# EAGLE library part IV-27M_RIGHT (library Russian-VFD-tubes)
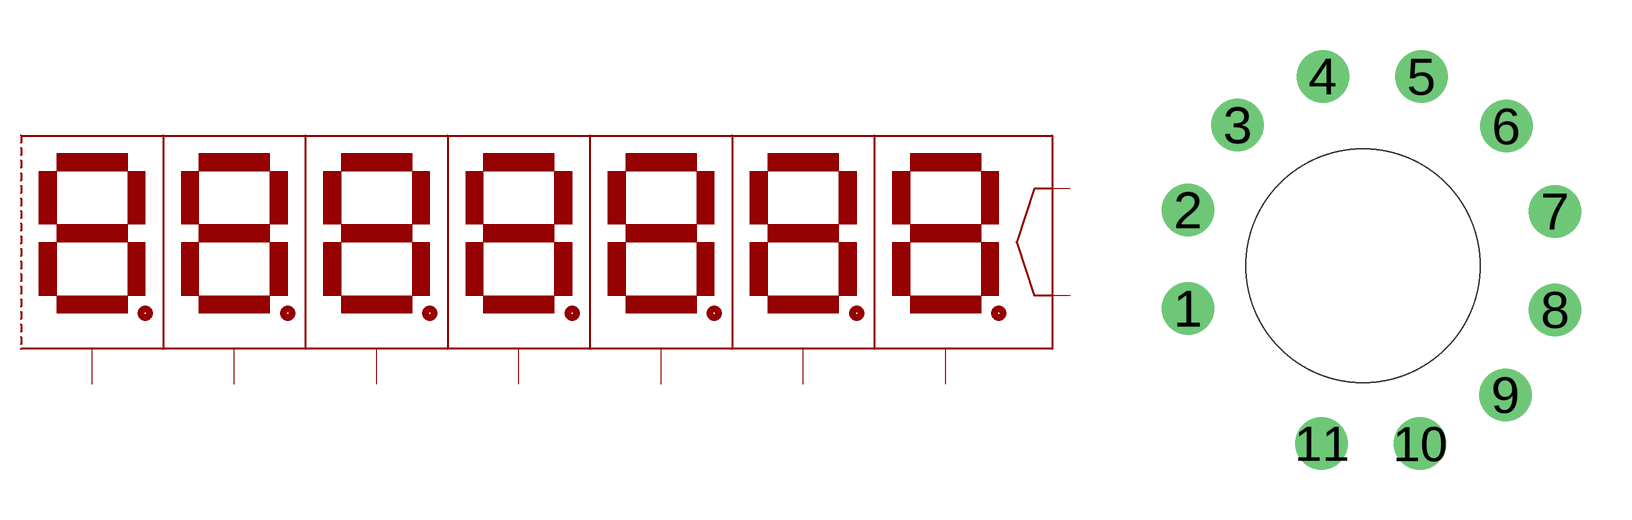
[diagram p8: symbol with the pads of IV-27M_RIGHT; footprint IV-27M_RIGHT]

Designator prefix -

## IV-27M_RIGHT  [IV-27M_RIGHT]
3  GRID_1
4  CATHODE/FILAMENT
5  CHATODE/FILAMENT/SPUTTERED_SHIELD
6  GRID_2
7  GRID_6
8  GRID_7
9  GRID_5
10  GRID_3
11  GRID_4

## Footprint IV-27M_RIGHT (pad centres in mm)
IV-27M_right
drill 1.05: 1 -5.249,-1.281; 2 -5.239,1.667; 3 -3.756,4.214; 4 -1.198,5.679; 5 1.749,5.669; 6 4.296,4.186; 7 5.761,1.628; 8 5.751,-1.319; 9 4.268,-3.867; 10 1.711,-5.331; 11 -1.237,-5.321
hole 7 at 0,0